# Altium integrated library Linear Technology Power Management LDO Linear Regulators.IntLib: 2339 symbols (part 29 of 131)
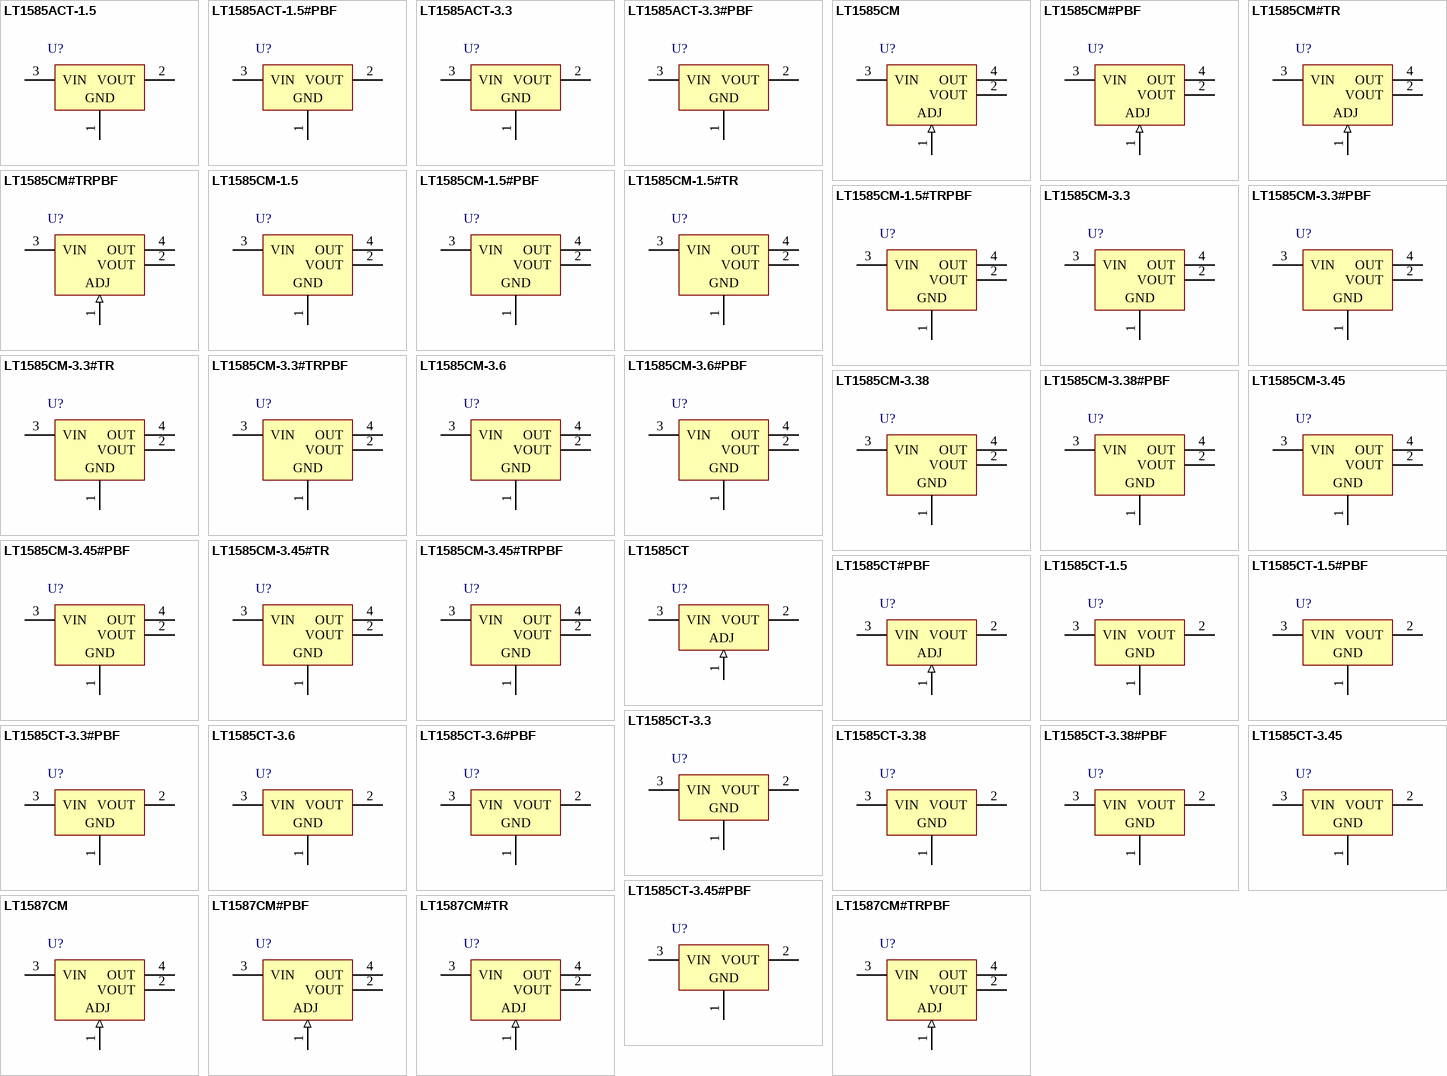
[diagram p97: symbols LT1585ACT-1.5 to LT1587CM#TRPBF]

## LT1585CT-1.5
designator U?
4.6 A Low Dropout Fast Response Positive Regulator, 2.5 to 7 V Vin, 1.5 V Vout, 3-pin FM (T-3), 0 to 150 degC; Manufacturer: Linear Technology; PartNumber: LT1585CT-1.5; Discrete Pass Element: no; Dropout Voltage(V): 1.2; Iout(mA): 4600; Isupply(mA): 8; Number of Outputs: 1; Output Voltage: 1.5 V; Vin Max(V): 7; Vin Min(V): 2.5; DatasheetVersion: Rev. A; PackageVersion: Jun-10; PackageReference: T-3; PackageDescription: 3-Pin Plastic TO-220, Body 10.2235 x 4.3815 mm, Pitch 2.54 mm; Supplier 1: Digi-Key; Supplier Part Number 1: LT1585CT-1.5-ND; RoHS: FALSE; Mounting Technology: Through Hole; ComponentLink1Description: Manufacturer URL; ComponentLink1URL: http://www.linear.com/; ComponentLink2Description: Datasheet; ComponentLink2URL: http://cds.linear.com/docs/en/datasheet/158515fa.pdf; ComponentLink3Description: Package Specification; ComponentLink3URL: http://cds.linear.com/docs/en/packaging/TO-220_3_05-08-1420.pdf
footprint LT-T-3 (T, 3-Leads, Body 10.55x4.6mm, Pitch 2.54mm)
pins: 1 GND (power), 2 VOUT (power), 3 VIN (power)

## LT1585CT-1.5#PBF
designator U?
4.6 A Low Dropout Fast Response Positive Regulator, 2.5 to 7 V Vin, 1.5 V Vout, 3-pin FM (T-3), 0 to 150 degC, Pb-Free; Manufacturer: Linear Technology; PartNumber: LT1585CT-1.5#PBF; Discrete Pass Element: no; Dropout Voltage(V): 1.2; Iout(mA): 4600; Isupply(mA): 8; Number of Outputs: 1; Output Voltage: 1.5 V; Vin Max(V): 7; Vin Min(V): 2.5; DatasheetVersion: Rev. A; PackageVersion: Jun-10; PackageReference: T-3; PackageDescription: 3-Pin Plastic TO-220, Body 10.2235 x 4.3815 mm, Pitch 2.54 mm; Supplier 1: Digi-Key; Supplier Part Number 1: LT1585CT-1.5#PBF-ND; RoHS: TRUE; Mounting Technology: Through Hole; ComponentLink1Description: Manufacturer URL; ComponentLink1URL: http://www.linear.com/; ComponentLink2Description: Datasheet; ComponentLink2URL: http://cds.linear.com/docs/en/datasheet/158515fa.pdf; ComponentLink3Description: Package Specification; ComponentLink3URL: http://cds.linear.com/docs/en/packaging/TO-220_3_05-08-1420.pdf
footprint LT-T-3 (T, 3-Leads, Body 10.55x4.6mm, Pitch 2.54mm)
pins: 1 GND (power), 2 VOUT (power), 3 VIN (power)

## LT1585CT-3.3
designator U?
4.6 A Low Dropout Fast Response Positive Regulator, 2.35 to 7 V Vin, 3.3 V Vout, 3-pin FM (T-3), 0 to 150 degC; Manufacturer: Linear Technology; PartNumber: LT1585CT-3.3; Discrete Pass Element: no; Dropout Voltage(V): 1.2; Iout(mA): 4600; Isupply(mA): 8; Number of Outputs: 1; Output Voltage: 3.3 V; Vin Max(V): 7; Vin Min(V): 2.35; DatasheetVersion: Rev. A; PackageVersion: Jun-10; PackageReference: T-3; PackageDescription: 3-Pin Plastic TO-220, Body 10.2235 x 4.3815 mm, Pitch 2.54 mm; Supplier 1: Newark; Supplier Part Number 1: 57M5132; RoHS: FALSE; Mounting Technology: Through Hole; ComponentLink1Description: Manufacturer URL; ComponentLink1URL: http://www.linear.com/; ComponentLink2Description: Datasheet; ComponentLink2URL: http://cds.linear.com/docs/en/datasheet/158457a.pdf; ComponentLink3Description: Package Specification; ComponentLink3URL: http://cds.linear.com/docs/en/packaging/TO-220_3_05-08-1420.pdf
footprint LT-T-3 (T, 3-Leads, Body 10.55x4.6mm, Pitch 2.54mm)
pins: 1 GND (power), 2 VOUT (power), 3 VIN (power)

## LT1585CT-3.3#PBF
designator U?
4.6 A Low Dropout Fast Response Positive Regulator, 2.35 to 7 V Vin, 3.3 V Vout, 3-pin FM (T-3), 0 to 150 degC, Pb-Free; Manufacturer: Linear Technology; PartNumber: LT1585CT-3.3#PBF; Discrete Pass Element: no; Dropout Voltage(V): 1.2; Iout(mA): 4600; Isupply(mA): 8; Number of Outputs: 1; Output Voltage: 3.3 V; Vin Max(V): 7; Vin Min(V): 2.35; DatasheetVersion: Rev. A; PackageVersion: Jun-10; PackageReference: T-3; PackageDescription: 3-Pin Plastic TO-220, Body 10.2235 x 4.3815 mm, Pitch 2.54 mm; Supplier 1: Digi-Key; Supplier Part Number 1: LT1585CT-3.3#PBF-ND; Supplier 2: Newark; Supplier Part Number 2: 57M5133; RoHS: TRUE; Mounting Technology: Through Hole; ComponentLink1Description: Manufacturer URL; ComponentLink1URL: http://www.linear.com/; ComponentLink2Description: Datasheet; ComponentLink2URL: http://cds.linear.com/docs/en/datasheet/158457a.pdf; ComponentLink3Description: Package Specification; ComponentLink3URL: http://cds.linear.com/docs/en/packaging/TO-220_3_05-08-1420.pdf
footprint LT-T-3 (T, 3-Leads, Body 10.55x4.6mm, Pitch 2.54mm)
pins: 1 GND (power), 2 VOUT (power), 3 VIN (power)

## LT1585CT-3.6
designator U?
4.6 A Low Dropout Fast Response Positive Regulator, 2.35 to 7 V Vin, 3.6 V Vout, 3-pin FM (T-3), 0 to 150 degC; Manufacturer: Linear Technology; PartNumber: LT1585CT-3.6; Discrete Pass Element: no; Dropout Voltage(V): 1.2; Iout(mA): 4600; Isupply(mA): 8; Number of Outputs: 1; Output Voltage: 3.6 V; Vin Max(V): 7; Vin Min(V): 2.35; DatasheetVersion: Rev. A; PackageVersion: Jun-10; PackageReference: T-3; PackageDescription: 3-Pin Plastic TO-220, Body 10.2235 x 4.3815 mm, Pitch 2.54 mm; Supplier 1: Digi-Key; Supplier Part Number 1: LT1585CT-3.6-ND; RoHS: FALSE; Mounting Technology: Through Hole; ComponentLink1Description: Manufacturer URL; ComponentLink1URL: http://www.linear.com/; ComponentLink2Description: Datasheet; ComponentLink2URL: http://cds.linear.com/docs/en/datasheet/158457a.pdf; ComponentLink3Description: Package Specification; ComponentLink3URL: http://cds.linear.com/docs/en/packaging/TO-220_3_05-08-1420.pdf
footprint LT-T-3 (T, 3-Leads, Body 10.55x4.6mm, Pitch 2.54mm)
pins: 1 GND (power), 2 VOUT (power), 3 VIN (power)

## LT1585CT-3.6#PBF
designator U?
4.6 A Low Dropout Fast Response Positive Regulator, 2.35 to 7 V Vin, 3.6 V Vout, 3-pin FM (T-3), 0 to 150 degC, Pb-Free; Manufacturer: Linear Technology; PartNumber: LT1585CT-3.6#PBF; Discrete Pass Element: no; Dropout Voltage(V): 1.2; Iout(mA): 4600; Isupply(mA): 8; Number of Outputs: 1; Output Voltage: 3.6 V; Vin Max(V): 7; Vin Min(V): 2.35; DatasheetVersion: Rev. A; PackageVersion: Jun-10; PackageReference: T-3; PackageDescription: 3-Pin Plastic TO-220, Body 10.2235 x 4.3815 mm, Pitch 2.54 mm; Supplier 1: Digi-Key; Supplier Part Number 1: LT1585CT-3.6#PBF-ND; RoHS: TRUE; Mounting Technology: Through Hole; ComponentLink1Description: Manufacturer URL; ComponentLink1URL: http://www.linear.com/; ComponentLink2Description: Datasheet; ComponentLink2URL: http://cds.linear.com/docs/en/datasheet/158457a.pdf; ComponentLink3Description: Package Specification; ComponentLink3URL: http://cds.linear.com/docs/en/packaging/TO-220_3_05-08-1420.pdf
footprint LT-T-3 (T, 3-Leads, Body 10.55x4.6mm, Pitch 2.54mm)
pins: 1 GND (power), 2 VOUT (power), 3 VIN (power)

## LT1585CT-3.38
designator U?
4.6 A Low Dropout Fast Response Positive Regulator, 2.35 to 7 V Vin, 3.38 V Vout, 3-pin FM (T-3), 0 to 150 degC; Manufacturer: Linear Technology; PartNumber: LT1585CT-3.38; Discrete Pass Element: no; Dropout Voltage(V): 1.2; Iout(mA): 4600; Isupply(mA): 8; Number of Outputs: 1; Output Voltage: 3.38 V; Vin Max(V): 7; Vin Min(V): 2.35; DatasheetVersion: Rev. A; PackageVersion: Jun-10; PackageReference: T-3; PackageDescription: 3-Pin Plastic TO-220, Body 10.2235 x 4.3815 mm, Pitch 2.54 mm; Supplier 1: Digi-Key; Supplier Part Number 1: LT1585CT-3.38-ND; RoHS: FALSE; Mounting Technology: Through Hole; ComponentLink1Description: Manufacturer URL; ComponentLink1URL: http://www.linear.com/; ComponentLink2Description: Datasheet; ComponentLink2URL: http://cds.linear.com/docs/en/datasheet/158457a.pdf; ComponentLink3Description: Package Specification; ComponentLink3URL: http://cds.linear.com/docs/en/packaging/TO-220_3_05-08-1420.pdf
footprint LT-T-3 (T, 3-Leads, Body 10.55x4.6mm, Pitch 2.54mm)
pins: 1 GND (power), 2 VOUT (power), 3 VIN (power)

## LT1585CT-3.38#PBF
designator U?
4.6 A Low Dropout Fast Response Positive Regulator, 2.35 to 7 V Vin, 3.38 V Vout, 3-pin FM (T-3), 0 to 150 degC, Pb-Free; Manufacturer: Linear Technology; PartNumber: LT1585CT-3.38#PBF; Discrete Pass Element: no; Dropout Voltage(V): 1.2; Iout(mA): 4600; Isupply(mA): 8; Number of Outputs: 1; Output Voltage: 3.38 V; Vin Max(V): 7; Vin Min(V): 2.35; DatasheetVersion: Rev. A; PackageVersion: Jun-10; PackageReference: T-3; PackageDescription: 3-Pin Plastic TO-220, Body 10.2235 x 4.3815 mm, Pitch 2.54 mm; Supplier 1: Digi-Key; Supplier Part Number 1: LT1585CT-3.38#PBF-ND; RoHS: TRUE; Mounting Technology: Through Hole; ComponentLink1Description: Manufacturer URL; ComponentLink1URL: http://www.linear.com/; ComponentLink2Description: Datasheet; ComponentLink2URL: http://cds.linear.com/docs/en/datasheet/158457a.pdf; ComponentLink3Description: Package Specification; ComponentLink3URL: http://cds.linear.com/docs/en/packaging/TO-220_3_05-08-1420.pdf
footprint LT-T-3 (T, 3-Leads, Body 10.55x4.6mm, Pitch 2.54mm)
pins: 1 GND (power), 2 VOUT (power), 3 VIN (power)

## LT1585CT-3.45
designator U?
4.6 A Low Dropout Fast Response Positive Regulator, 2.35 to 7 V Vin, 3.45 V Vout, 3-pin FM (T-3), 0 to 150 degC; Manufacturer: Linear Technology; PartNumber: LT1585CT-3.45; Discrete Pass Element: no; Dropout Voltage(V): 1.2; Iout(mA): 4600; Isupply(mA): 8; Number of Outputs: 1; Output Voltage: 3.45 V; Vin Max(V): 7; Vin Min(V): 2.35; DatasheetVersion: Rev. A; PackageVersion: Jun-10; PackageReference: T-3; PackageDescription: 3-Pin Plastic TO-220, Body 10.2235 x 4.3815 mm, Pitch 2.54 mm; Supplier 1: Digi-Key; Supplier Part Number 1: LT1585CT-3.45-ND; RoHS: FALSE; Mounting Technology: Through Hole; ComponentLink1Description: Manufacturer URL; ComponentLink1URL: http://www.linear.com/; ComponentLink2Description: Datasheet; ComponentLink2URL: http://cds.linear.com/docs/en/datasheet/158457a.pdf; ComponentLink3Description: Package Specification; ComponentLink3URL: http://cds.linear.com/docs/en/packaging/TO-220_3_05-08-1420.pdf
footprint LT-T-3 (T, 3-Leads, Body 10.55x4.6mm, Pitch 2.54mm)
pins: 1 GND (power), 2 VOUT (power), 3 VIN (power)

## LT1585CT-3.45#PBF
designator U?
4.6 A Low Dropout Fast Response Positive Regulator, 2.35 to 7 V Vin, 3.45 V Vout, 3-pin FM (T-3), 0 to 150 degC, Pb-Free; Manufacturer: Linear Technology; PartNumber: LT1585CT-3.45#PBF; Discrete Pass Element: no; Dropout Voltage(V): 1.2; Iout(mA): 4600; Isupply(mA): 8; Number of Outputs: 1; Output Voltage: 3.45 V; Vin Max(V): 7; Vin Min(V): 2.35; DatasheetVersion: Rev. A; PackageVersion: Jun-10; PackageReference: T-3; PackageDescription: 3-Pin Plastic TO-220, Body 10.2235 x 4.3815 mm, Pitch 2.54 mm; Supplier 1: Digi-Key; Supplier Part Number 1: LT1585CT-3.45#PBF-ND; Supplier 2: Newark; Supplier Part Number 2: 57M5137; RoHS: TRUE; Mounting Technology: Through Hole; ComponentLink1Description: Manufacturer URL; ComponentLink1URL: http://www.linear.com/; ComponentLink2Description: Datasheet; ComponentLink2URL: http://cds.linear.com/docs/en/datasheet/158457a.pdf; ComponentLink3Description: Package Specification; ComponentLink3URL: http://cds.linear.com/docs/en/packaging/TO-220_3_05-08-1420.pdf
footprint LT-T-3 (T, 3-Leads, Body 10.55x4.6mm, Pitch 2.54mm)
pins: 1 GND (power), 2 VOUT (power), 3 VIN (power)

## LT1587CM
designator U?
3 A Low Dropout Fast Response Positive Regulator, 2.7 to 7 V Vin, Adjustable Vout, 3-pin DPAK (M-3), 0 to 150 degC; Manufacturer: Linear Technology; PartNumber: LT1587CM; Discrete Pass Element: no; Dropout Voltage(V): 1.15; Iout(mA): 3000; Isupply(mA): 8; Number of Outputs: 1; Output Voltage: Adj; PSRR(dB): 72; Vin Max(V): 7; Vin Min(V): 2.7; Vout Max(V): 5.5; Vout Min(V): 1.5; DatasheetVersion: Rev. A; PackageVersion: Rev. F, 05/2012; PackageReference: M-3; PackageDescription: 3-Pin Plastic DD Pak, Body 10.2235 x 8.89 mm, Pitch 2.54 mm; Supplier 1: Digi-Key; Supplier Part Number 1: LT1587CM-ND; Supplier 2: Newark; Supplier Part Number 2: 57M5141; RoHS: FALSE; Mounting Technology: Surface Mount; ComponentLink1Description: Manufacturer URL; ComponentLink1URL: http://www.linear.com/; ComponentLink2Description: Datasheet; ComponentLink2URL: http://cds.linear.com/docs/en/datasheet/158457a.pdf; ComponentLink3Description: Package Specification; ComponentLink3URL: http://cds.linear.com/docs/en/packaging/05081460_F_M.pdf
footprint LT-M-3_N (DPAK, 3-Leads, Body 10.55x9.4mm, Pitch 2.54mm, IPC Medium Density)
footprint LT-M-3_L (DPAK, 3-Leads, Body 10.55x9.4mm, Pitch 2.54mm, IPC High Density)
footprint LT-M-3_M (DPAK, 3-Leads, Body 10.55x9.4mm, Pitch 2.54mm, IPC Low Density)
pins: 1 ADJ (in), 2 VOUT (power), 3 VIN (power), 4 OUT (power)

## LT1587CM#PBF
designator U?
3 A Low Dropout Fast Response Positive Regulator, 2.7 to 7 V Vin, Adjustable Vout, 3-pin DPAK (M-3), 0 to 150 degC, Pb-Free; Manufacturer: Linear Technology; PartNumber: LT1587CM#PBF; Discrete Pass Element: no; Dropout Voltage(V): 1.15; Iout(mA): 3000; Isupply(mA): 8; Number of Outputs: 1; Output Voltage: Adj; PSRR(dB): 72; Vin Max(V): 7; Vin Min(V): 2.7; Vout Max(V): 5.5; Vout Min(V): 1.5; DatasheetVersion: Rev. A; PackageVersion: Rev. F, 05/2012; PackageReference: M-3; PackageDescription: 3-Pin Plastic DD Pak, Body 10.2235 x 8.89 mm, Pitch 2.54 mm; Supplier 1: Digi-Key; Supplier Part Number 1: LT1587CM#PBF-ND; Supplier 2: Farnell; Supplier Part Number 2: 1273605; Supplier 3: Newark; Supplier Part Number 3: 57M5158; RoHS: TRUE; Mounting Technology: Surface Mount; ComponentLink1Description: Manufacturer URL; ComponentLink1URL: http://www.linear.com/; ComponentLink2Description: Datasheet; ComponentLink2URL: http://cds.linear.com/docs/en/datasheet/158457a.pdf; ComponentLink3Description: Package Specification; ComponentLink3URL: http://cds.linear.com/docs/en/packaging/05081460_F_M.pdf
footprint LT-M-3_N (DPAK, 3-Leads, Body 10.55x9.4mm, Pitch 2.54mm, IPC Medium Density)
footprint LT-M-3_L (DPAK, 3-Leads, Body 10.55x9.4mm, Pitch 2.54mm, IPC High Density)
footprint LT-M-3_M (DPAK, 3-Leads, Body 10.55x9.4mm, Pitch 2.54mm, IPC Low Density)
pins: 1 ADJ (in), 2 VOUT (power), 3 VIN (power), 4 OUT (power)

## LT1587CM#TR
designator U?
3 A Low Dropout Fast Response Positive Regulator, 2.7 to 7 V Vin, Adjustable Vout, 3-pin DPAK (M-3), 0 to 150 degC, Tape and Reel; Manufacturer: Linear Technology; PartNumber: LT1587CM#TR; Discrete Pass Element: no; Dropout Voltage(V): 1.15; Iout(mA): 3000; Isupply(mA): 8; Number of Outputs: 1; Output Voltage: Adj; PSRR(dB): 72; Vin Max(V): 7; Vin Min(V): 2.7; Vout Max(V): 5.5; Vout Min(V): 1.5; DatasheetVersion: Rev. A; PackageVersion: Rev. F, 05/2012; PackageReference: M-3; PackageDescription: 3-Pin Plastic DD Pak, Body 10.2235 x 8.89 mm, Pitch 2.54 mm; Supplier 1: Digi-Key; Supplier Part Number 1: LT1587CM#TR-ND; Packing: Tape and Reel; RoHS: FALSE; Mounting Technology: Surface Mount; ComponentLink1Description: Manufacturer URL; ComponentLink1URL: http://www.linear.com/; ComponentLink2Description: Datasheet; ComponentLink2URL: http://cds.linear.com/docs/en/datasheet/158457a.pdf; ComponentLink3Description: Package Specification; ComponentLink3URL: http://cds.linear.com/docs/en/packaging/05081460_F_M.pdf
footprint LT-M-3_N (DPAK, 3-Leads, Body 10.55x9.4mm, Pitch 2.54mm, IPC Medium Density)
footprint LT-M-3_L (DPAK, 3-Leads, Body 10.55x9.4mm, Pitch 2.54mm, IPC High Density)
footprint LT-M-3_M (DPAK, 3-Leads, Body 10.55x9.4mm, Pitch 2.54mm, IPC Low Density)
pins: 1 ADJ (in), 2 VOUT (power), 3 VIN (power), 4 OUT (power)

## LT1587CM#TRPBF
designator U?
3 A Low Dropout Fast Response Positive Regulator, 2.7 to 7 V Vin, Adjustable Vout, 3-pin DPAK (M-3), 0 to 150 degC, Pb-Free, Tape and Reel; Manufacturer: Linear Technology; PartNumber: LT1587CM#TRPBF; Discrete Pass Element: no; Dropout Voltage(V): 1.15; Iout(mA): 3000; Isupply(mA): 8; Number of Outputs: 1; Output Voltage: Adj; PSRR(dB): 72; Vin Max(V): 7; Vin Min(V): 2.7; Vout Max(V): 5.5; Vout Min(V): 1.5; DatasheetVersion: Rev. A; PackageVersion: Rev. F, 05/2012; PackageReference: M-3; PackageDescription: 3-Pin Plastic DD Pak, Body 10.2235 x 8.89 mm, Pitch 2.54 mm; Supplier 1: Digi-Key; Supplier Part Number 1: LT1587CM#TRPBF-ND; Supplier 2: Newark; Supplier Part Number 2: 57M5160; Packing: Tape and Reel; RoHS: TRUE; Mounting Technology: Surface Mount; ComponentLink1Description: Manufacturer URL; ComponentLink1URL: http://www.linear.com/; ComponentLink2Description: Datasheet; ComponentLink2URL: http://cds.linear.com/docs/en/datasheet/158457a.pdf; ComponentLink3Description: Package Specification; ComponentLink3URL: http://cds.linear.com/docs/en/packaging/05081460_F_M.pdf
footprint LT-M-3_N (DPAK, 3-Leads, Body 10.55x9.4mm, Pitch 2.54mm, IPC Medium Density)
footprint LT-M-3_L (DPAK, 3-Leads, Body 10.55x9.4mm, Pitch 2.54mm, IPC High Density)
footprint LT-M-3_M (DPAK, 3-Leads, Body 10.55x9.4mm, Pitch 2.54mm, IPC Low Density)
pins: 1 ADJ (in), 2 VOUT (power), 3 VIN (power), 4 OUT (power)

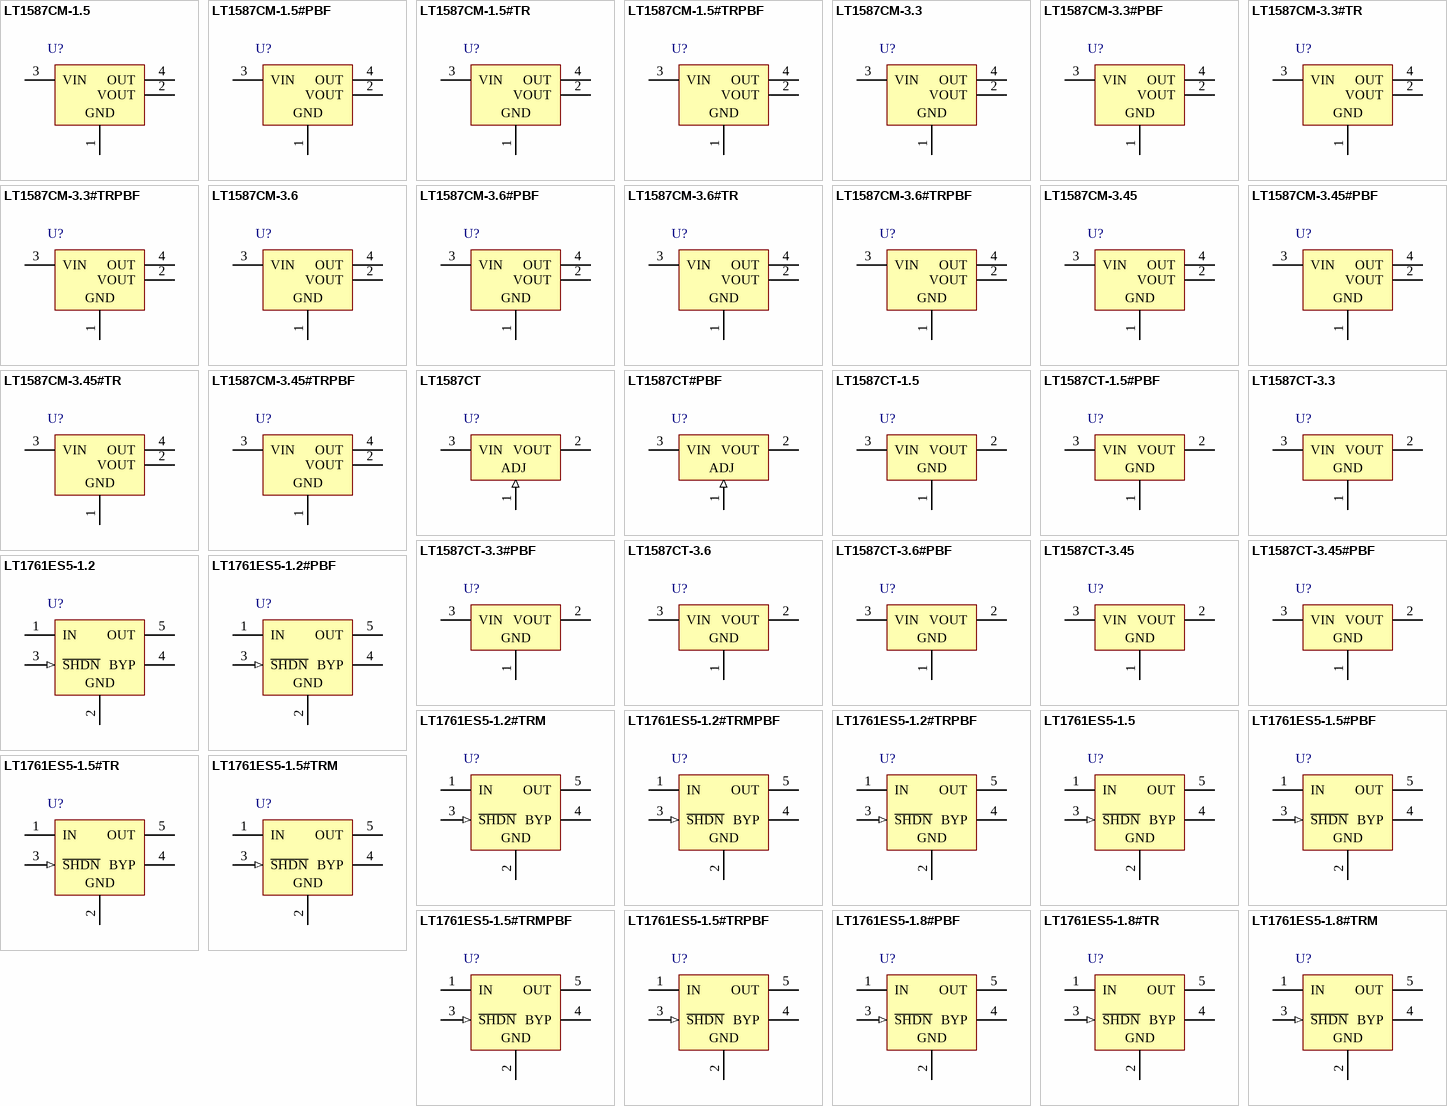
[diagram p20: symbols LT1587CM-1.5 to LT1761ES5-1.8#TRM]

## LT1587CM-1.5
designator U?
3 A Low Dropout Fast Response Positive Regulator, 2.7 to 7 V Vin, 1.5 V Vout, 3-pin DPAK (M-3), 0 to 150 degC; Manufacturer: Linear Technology; PartNumber: LT1587CM-1.5; Discrete Pass Element: no; Dropout Voltage(V): 1.15; Iout(mA): 3000; Isupply(mA): 8; Number of Outputs: 1; Output Voltage: 1.5 V; PSRR(dB): 72; Vin Max(V): 7; Vin Min(V): 2.7; DatasheetVersion: Rev. A; PackageVersion: Rev. F, 05/2012; PackageReference: M-3; PackageDescription: 3-Pin Plastic DD Pak, Body 10.2235 x 8.89 mm, Pitch 2.54 mm; Supplier 1: Digi-Key; Supplier Part Number 1: LT1587CM-1.5-ND; RoHS: FALSE; Mounting Technology: Surface Mount; ComponentLink1Description: Manufacturer URL; ComponentLink1URL: http://www.linear.com/; ComponentLink2Description: Datasheet; ComponentLink2URL: http://cds.linear.com/docs/en/datasheet/158457a.pdf; ComponentLink3Description: Package Specification; ComponentLink3URL: http://cds.linear.com/docs/en/packaging/05081460_F_M.pdf
footprint LT-M-3_N (DPAK, 3-Leads, Body 10.55x9.4mm, Pitch 2.54mm, IPC Medium Density)
footprint LT-M-3_L (DPAK, 3-Leads, Body 10.55x9.4mm, Pitch 2.54mm, IPC High Density)
footprint LT-M-3_M (DPAK, 3-Leads, Body 10.55x9.4mm, Pitch 2.54mm, IPC Low Density)
pins: 1 GND (power), 2 VOUT (power), 3 VIN (power), 4 OUT (power)

## LT1587CM-1.5#PBF
designator U?
3 A Low Dropout Fast Response Positive Regulator, 2.7 to 7 V Vin, 1.5 V Vout, 3-pin DPAK (M-3), 0 to 150 degC, Pb-Free; Manufacturer: Linear Technology; PartNumber: LT1587CM-1.5#PBF; Discrete Pass Element: no; Dropout Voltage(V): 1.15; Iout(mA): 3000; Isupply(mA): 8; Number of Outputs: 1; Output Voltage: 1.5 V; PSRR(dB): 72; Vin Max(V): 7; Vin Min(V): 2.7; DatasheetVersion: Rev. A; PackageVersion: Rev. F, 05/2012; PackageReference: M-3; PackageDescription: 3-Pin Plastic DD Pak, Body 10.2235 x 8.89 mm, Pitch 2.54 mm; Supplier 1: Digi-Key; Supplier Part Number 1: LT1587CM-1.5#PBF-ND; Supplier 2: Farnell; Supplier Part Number 2: 2293138; RoHS: TRUE; Mounting Technology: Surface Mount; ComponentLink1Description: Manufacturer URL; ComponentLink1URL: http://www.linear.com/; ComponentLink2Description: Datasheet; ComponentLink2URL: http://cds.linear.com/docs/en/datasheet/158457a.pdf; ComponentLink3Description: Package Specification; ComponentLink3URL: http://cds.linear.com/docs/en/packaging/05081460_F_M.pdf
footprint LT-M-3_N (DPAK, 3-Leads, Body 10.55x9.4mm, Pitch 2.54mm, IPC Medium Density)
footprint LT-M-3_L (DPAK, 3-Leads, Body 10.55x9.4mm, Pitch 2.54mm, IPC High Density)
footprint LT-M-3_M (DPAK, 3-Leads, Body 10.55x9.4mm, Pitch 2.54mm, IPC Low Density)
pins: 1 GND (power), 2 VOUT (power), 3 VIN (power), 4 OUT (power)

## LT1587CM-1.5#TR
designator U?
3 A Low Dropout Fast Response Positive Regulator, 2.7 to 7 V Vin, 1.5 V Vout, 3-pin DPAK (M-3), 0 to 150 degC, Tape and Reel; Manufacturer: Linear Technology; PartNumber: LT1587CM-1.5#TR; Discrete Pass Element: no; Dropout Voltage(V): 1.15; Iout(mA): 3000; Isupply(mA): 8; Number of Outputs: 1; Output Voltage: 1.5 V; PSRR(dB): 72; Vin Max(V): 7; Vin Min(V): 2.7; DatasheetVersion: Rev. A; PackageVersion: Rev. F, 05/2012; PackageReference: M-3; PackageDescription: 3-Pin Plastic DD Pak, Body 10.2235 x 8.89 mm, Pitch 2.54 mm; Supplier 1: Digi-Key; Supplier Part Number 1: LT1587CM-1.5#TR-ND; Packing: Tape and Reel; RoHS: FALSE; Mounting Technology: Surface Mount; ComponentLink1Description: Manufacturer URL; ComponentLink1URL: http://www.linear.com/; ComponentLink2Description: Datasheet; ComponentLink2URL: http://cds.linear.com/docs/en/datasheet/158457a.pdf; ComponentLink3Description: Package Specification; ComponentLink3URL: http://cds.linear.com/docs/en/packaging/05081460_F_M.pdf
footprint LT-M-3_N (DPAK, 3-Leads, Body 10.55x9.4mm, Pitch 2.54mm, IPC Medium Density)
footprint LT-M-3_L (DPAK, 3-Leads, Body 10.55x9.4mm, Pitch 2.54mm, IPC High Density)
footprint LT-M-3_M (DPAK, 3-Leads, Body 10.55x9.4mm, Pitch 2.54mm, IPC Low Density)
pins: 1 GND (power), 2 VOUT (power), 3 VIN (power), 4 OUT (power)

## LT1587CM-1.5#TRPBF
designator U?
3 A Low Dropout Fast Response Positive Regulator, 2.7 to 7 V Vin, 1.5 V Vout, 3-pin DPAK (M-3), 0 to 150 degC, Pb-Free, Tape and Reel; Manufacturer: Linear Technology; PartNumber: LT1587CM-1.5#TRPBF; Discrete Pass Element: no; Dropout Voltage(V): 1.15; Iout(mA): 3000; Isupply(mA): 8; Number of Outputs: 1; Output Voltage: 1.5 V; PSRR(dB): 72; Vin Max(V): 7; Vin Min(V): 2.7; DatasheetVersion: Rev. A; PackageVersion: Rev. F, 05/2012; PackageReference: M-3; PackageDescription: 3-Pin Plastic DD Pak, Body 10.2235 x 8.89 mm, Pitch 2.54 mm; Supplier 1: Digi-Key; Supplier Part Number 1: LT1587CM-1.5#TRPBF-ND; Packing: Tape and Reel; RoHS: TRUE; Mounting Technology: Surface Mount; ComponentLink1Description: Manufacturer URL; ComponentLink1URL: http://www.linear.com/; ComponentLink2Description: Datasheet; ComponentLink2URL: http://cds.linear.com/docs/en/datasheet/158457a.pdf; ComponentLink3Description: Package Specification; ComponentLink3URL: http://cds.linear.com/docs/en/packaging/05081460_F_M.pdf
footprint LT-M-3_N (DPAK, 3-Leads, Body 10.55x9.4mm, Pitch 2.54mm, IPC Medium Density)
footprint LT-M-3_L (DPAK, 3-Leads, Body 10.55x9.4mm, Pitch 2.54mm, IPC High Density)
footprint LT-M-3_M (DPAK, 3-Leads, Body 10.55x9.4mm, Pitch 2.54mm, IPC Low Density)
pins: 1 GND (power), 2 VOUT (power), 3 VIN (power), 4 OUT (power)

## LT1587CM-3.3
designator U?
3 A Low Dropout Fast Response Positive Regulator, 2.7 to 7 V Vin, 3.3 V Vout, 3-pin DPAK (M-3), 0 to 150 degC; Manufacturer: Linear Technology; PartNumber: LT1587CM-3.3; Discrete Pass Element: no; Dropout Voltage(V): 1.15; Iout(mA): 3000; Isupply(mA): 8; Number of Outputs: 1; Output Voltage: 3.3 V; PSRR(dB): 72; Vin Max(V): 7; Vin Min(V): 2.7; DatasheetVersion: Rev. A; PackageVersion: Rev. F, 05/2012; PackageReference: M-3; PackageDescription: 3-Pin Plastic DD Pak, Body 10.2235 x 8.89 mm, Pitch 2.54 mm; Supplier 1: Digi-Key; Supplier Part Number 1: LT1587CM-3.3-ND; RoHS: FALSE; Mounting Technology: Surface Mount; ComponentLink1Description: Manufacturer URL; ComponentLink1URL: http://www.linear.com/; ComponentLink2Description: Datasheet; ComponentLink2URL: http://cds.linear.com/docs/en/datasheet/158457a.pdf; ComponentLink3Description: Package Specification; ComponentLink3URL: http://cds.linear.com/docs/en/packaging/05081460_F_M.pdf
footprint LT-M-3_N (DPAK, 3-Leads, Body 10.55x9.4mm, Pitch 2.54mm, IPC Medium Density)
footprint LT-M-3_L (DPAK, 3-Leads, Body 10.55x9.4mm, Pitch 2.54mm, IPC High Density)
footprint LT-M-3_M (DPAK, 3-Leads, Body 10.55x9.4mm, Pitch 2.54mm, IPC Low Density)
pins: 1 GND (power), 2 VOUT (power), 3 VIN (power), 4 OUT (power)

## LT1587CM-3.3#PBF
designator U?
3 A Low Dropout Fast Response Positive Regulator, 2.7 to 7 V Vin, 3.3 V Vout, 3-pin DPAK (M-3), 0 to 150 degC, Pb-Free; Manufacturer: Linear Technology; PartNumber: LT1587CM-3.3#PBF; Discrete Pass Element: no; Dropout Voltage(V): 1.15; Iout(mA): 3000; Isupply(mA): 8; Number of Outputs: 1; Output Voltage: 3.3 V; PSRR(dB): 72; Vin Max(V): 7; Vin Min(V): 2.7; DatasheetVersion: Rev. A; PackageVersion: Rev. F, 05/2012; PackageReference: M-3; PackageDescription: 3-Pin Plastic DD Pak, Body 10.2235 x 8.89 mm, Pitch 2.54 mm; Supplier 1: Digi-Key; Supplier Part Number 1: LT1587CM-3.3#PBF-ND; Supplier 2: Farnell; Supplier Part Number 2: 1273606; Supplier 3: Newark; Supplier Part Number 3: 57M5147; RoHS: TRUE; Mounting Technology: Surface Mount; ComponentLink1Description: Manufacturer URL; ComponentLink1URL: http://www.linear.com/; ComponentLink2Description: Datasheet; ComponentLink2URL: http://cds.linear.com/docs/en/datasheet/158457a.pdf; ComponentLink3Description: Package Specification; ComponentLink3URL: http://cds.linear.com/docs/en/packaging/05081460_F_M.pdf
footprint LT-M-3_N (DPAK, 3-Leads, Body 10.55x9.4mm, Pitch 2.54mm, IPC Medium Density)
footprint LT-M-3_L (DPAK, 3-Leads, Body 10.55x9.4mm, Pitch 2.54mm, IPC High Density)
footprint LT-M-3_M (DPAK, 3-Leads, Body 10.55x9.4mm, Pitch 2.54mm, IPC Low Density)
pins: 1 GND (power), 2 VOUT (power), 3 VIN (power), 4 OUT (power)

## LT1587CM-3.3#TR
designator U?
3 A Low Dropout Fast Response Positive Regulator, 2.7 to 7 V Vin, 3.3 V Vout, 3-pin DPAK (M-3), 0 to 150 degC, Tape and Reel; Manufacturer: Linear Technology; PartNumber: LT1587CM-3.3#TR; Discrete Pass Element: no; Dropout Voltage(V): 1.15; Iout(mA): 3000; Isupply(mA): 8; Number of Outputs: 1; Output Voltage: 3.3 V; PSRR(dB): 72; Vin Max(V): 7; Vin Min(V): 2.7; DatasheetVersion: Rev. A; PackageVersion: Rev. F, 05/2012; PackageReference: M-3; PackageDescription: 3-Pin Plastic DD Pak, Body 10.2235 x 8.89 mm, Pitch 2.54 mm; Supplier 1: Digi-Key; Supplier Part Number 1: LT1587CM-3.3#TR-ND; Packing: Tape and Reel; RoHS: FALSE; Mounting Technology: Surface Mount; ComponentLink1Description: Manufacturer URL; ComponentLink1URL: http://www.linear.com/; ComponentLink2Description: Datasheet; ComponentLink2URL: http://cds.linear.com/docs/en/datasheet/158457a.pdf; ComponentLink3Description: Package Specification; ComponentLink3URL: http://cds.linear.com/docs/en/packaging/05081460_F_M.pdf
footprint LT-M-3_N (DPAK, 3-Leads, Body 10.55x9.4mm, Pitch 2.54mm, IPC Medium Density)
footprint LT-M-3_L (DPAK, 3-Leads, Body 10.55x9.4mm, Pitch 2.54mm, IPC High Density)
footprint LT-M-3_M (DPAK, 3-Leads, Body 10.55x9.4mm, Pitch 2.54mm, IPC Low Density)
pins: 1 GND (power), 2 VOUT (power), 3 VIN (power), 4 OUT (power)

## LT1587CM-3.3#TRPBF
designator U?
3 A Low Dropout Fast Response Positive Regulator, 2.7 to 7 V Vin, 3.3 V Vout, 3-pin DPAK (M-3), 0 to 150 degC, Pb-Free, Tape and Reel; Manufacturer: Linear Technology; PartNumber: LT1587CM-3.3#TRPBF; Discrete Pass Element: no; Dropout Voltage(V): 1.15; Iout(mA): 3000; Isupply(mA): 8; Number of Outputs: 1; Output Voltage: 3.3 V; PSRR(dB): 72; Vin Max(V): 7; Vin Min(V): 2.7; DatasheetVersion: Rev. A; PackageVersion: Rev. F, 05/2012; PackageReference: M-3; PackageDescription: 3-Pin Plastic DD Pak, Body 10.2235 x 8.89 mm, Pitch 2.54 mm; Supplier 1: Digi-Key; Supplier Part Number 1: LT1587CM-3.3#TRPBF-ND; Supplier 2: Newark; Supplier Part Number 2: 57M5149; Packing: Tape and Reel; RoHS: TRUE; Mounting Technology: Surface Mount; ComponentLink1Description: Manufacturer URL; ComponentLink1URL: http://www.linear.com/; ComponentLink2Description: Datasheet; ComponentLink2URL: http://cds.linear.com/docs/en/datasheet/158457a.pdf; ComponentLink3Description: Package Specification; ComponentLink3URL: http://cds.linear.com/docs/en/packaging/05081460_F_M.pdf
footprint LT-M-3_N (DPAK, 3-Leads, Body 10.55x9.4mm, Pitch 2.54mm, IPC Medium Density)
footprint LT-M-3_L (DPAK, 3-Leads, Body 10.55x9.4mm, Pitch 2.54mm, IPC High Density)
footprint LT-M-3_M (DPAK, 3-Leads, Body 10.55x9.4mm, Pitch 2.54mm, IPC Low Density)
pins: 1 GND (power), 2 VOUT (power), 3 VIN (power), 4 OUT (power)

## LT1587CM-3.6
designator U?
3 A Low Dropout Fast Response Positive Regulator, 2.7 to 7 V Vin, 3.6 V Vout, 3-pin DPAK (M-3), 0 to 150 degC; Manufacturer: Linear Technology; PartNumber: LT1587CM-3.6; Discrete Pass Element: no; Dropout Voltage(V): 1.15; Iout(mA): 3000; Isupply(mA): 8; Number of Outputs: 1; Output Voltage: 3.6 V; PSRR(dB): 72; Vin Max(V): 7; Vin Min(V): 2.7; DatasheetVersion: Rev. A; PackageVersion: Rev. F, 05/2012; PackageReference: M-3; PackageDescription: 3-Pin Plastic DD Pak, Body 10.2235 x 8.89 mm, Pitch 2.54 mm; Supplier 1: Digi-Key; Supplier Part Number 1: LT1587CM-3.6-ND; RoHS: FALSE; Mounting Technology: Surface Mount; ComponentLink1Description: Manufacturer URL; ComponentLink1URL: http://www.linear.com/; ComponentLink2Description: Datasheet; ComponentLink2URL: http://cds.linear.com/docs/en/datasheet/158457a.pdf; ComponentLink3Description: Package Specification; ComponentLink3URL: http://cds.linear.com/docs/en/packaging/05081460_F_M.pdf
footprint LT-M-3_N (DPAK, 3-Leads, Body 10.55x9.4mm, Pitch 2.54mm, IPC Medium Density)
footprint LT-M-3_L (DPAK, 3-Leads, Body 10.55x9.4mm, Pitch 2.54mm, IPC High Density)
footprint LT-M-3_M (DPAK, 3-Leads, Body 10.55x9.4mm, Pitch 2.54mm, IPC Low Density)
pins: 1 GND (power), 2 VOUT (power), 3 VIN (power), 4 OUT (power)

## LT1587CM-3.6#PBF
designator U?
3 A Low Dropout Fast Response Positive Regulator, 2.7 to 7 V Vin, 3.6 V Vout, 3-pin DPAK (M-3), 0 to 150 degC, Pb-Free; Manufacturer: Linear Technology; PartNumber: LT1587CM-3.6#PBF; Discrete Pass Element: no; Dropout Voltage(V): 1.15; Iout(mA): 3000; Isupply(mA): 8; Number of Outputs: 1; Output Voltage: 3.6 V; PSRR(dB): 72; Vin Max(V): 7; Vin Min(V): 2.7; DatasheetVersion: Rev. A; PackageVersion: Rev. F, 05/2012; PackageReference: M-3; PackageDescription: 3-Pin Plastic DD Pak, Body 10.2235 x 8.89 mm, Pitch 2.54 mm; Supplier 1: Digi-Key; Supplier Part Number 1: LT1587CM-3.6#PBF-ND; RoHS: TRUE; Mounting Technology: Surface Mount; ComponentLink1Description: Manufacturer URL; ComponentLink1URL: http://www.linear.com/; ComponentLink2Description: Datasheet; ComponentLink2URL: http://cds.linear.com/docs/en/datasheet/158457a.pdf; ComponentLink3Description: Package Specification; ComponentLink3URL: http://cds.linear.com/docs/en/packaging/05081460_F_M.pdf
footprint LT-M-3_N (DPAK, 3-Leads, Body 10.55x9.4mm, Pitch 2.54mm, IPC Medium Density)
footprint LT-M-3_L (DPAK, 3-Leads, Body 10.55x9.4mm, Pitch 2.54mm, IPC High Density)
footprint LT-M-3_M (DPAK, 3-Leads, Body 10.55x9.4mm, Pitch 2.54mm, IPC Low Density)
pins: 1 GND (power), 2 VOUT (power), 3 VIN (power), 4 OUT (power)

## LT1587CM-3.6#TR
designator U?
3 A Low Dropout Fast Response Positive Regulator, 2.7 to 7 V Vin, 3.6 V Vout, 3-pin DPAK (M-3), 0 to 150 degC, Tape and Reel; Manufacturer: Linear Technology; PartNumber: LT1587CM-3.6#TR; Discrete Pass Element: no; Dropout Voltage(V): 1.15; Iout(mA): 3000; Isupply(mA): 8; Number of Outputs: 1; Output Voltage: 3.6 V; PSRR(dB): 72; Vin Max(V): 7; Vin Min(V): 2.7; DatasheetVersion: Rev. A; PackageVersion: Rev. F, 05/2012; PackageReference: M-3; PackageDescription: 3-Pin Plastic DD Pak, Body 10.2235 x 8.89 mm, Pitch 2.54 mm; Supplier 1: Digi-Key; Supplier Part Number 1: LT1587CM-3.6#TR-ND; Packing: Tape and Reel; RoHS: FALSE; Mounting Technology: Surface Mount; ComponentLink1Description: Manufacturer URL; ComponentLink1URL: http://www.linear.com/; ComponentLink2Description: Datasheet; ComponentLink2URL: http://cds.linear.com/docs/en/datasheet/158457a.pdf; ComponentLink3Description: Package Specification; ComponentLink3URL: http://cds.linear.com/docs/en/packaging/05081460_F_M.pdf
footprint LT-M-3_N (DPAK, 3-Leads, Body 10.55x9.4mm, Pitch 2.54mm, IPC Medium Density)
footprint LT-M-3_L (DPAK, 3-Leads, Body 10.55x9.4mm, Pitch 2.54mm, IPC High Density)
footprint LT-M-3_M (DPAK, 3-Leads, Body 10.55x9.4mm, Pitch 2.54mm, IPC Low Density)
pins: 1 GND (power), 2 VOUT (power), 3 VIN (power), 4 OUT (power)

## LT1587CM-3.6#TRPBF
designator U?
3 A Low Dropout Fast Response Positive Regulator, 2.7 to 7 V Vin, 3.6 V Vout, 3-pin DPAK (M-3), 0 to 150 degC, Pb-Free, Tape and Reel; Manufacturer: Linear Technology; PartNumber: LT1587CM-3.6#TRPBF; Discrete Pass Element: no; Dropout Voltage(V): 1.15; Iout(mA): 3000; Isupply(mA): 8; Number of Outputs: 1; Output Voltage: 3.6 V; PSRR(dB): 72; Vin Max(V): 7; Vin Min(V): 2.7; DatasheetVersion: Rev. A; PackageVersion: Rev. F, 05/2012; PackageReference: M-3; PackageDescription: 3-Pin Plastic DD Pak, Body 10.2235 x 8.89 mm, Pitch 2.54 mm; Supplier 1: Digi-Key; Supplier Part Number 1: LT1587CM-3.6#TRPBF-ND; Packing: Tape and Reel; RoHS: TRUE; Mounting Technology: Surface Mount; ComponentLink1Description: Manufacturer URL; ComponentLink1URL: http://www.linear.com/; ComponentLink2Description: Datasheet; ComponentLink2URL: http://cds.linear.com/docs/en/datasheet/158457a.pdf; ComponentLink3Description: Package Specification; ComponentLink3URL: http://cds.linear.com/docs/en/packaging/05081460_F_M.pdf
footprint LT-M-3_N (DPAK, 3-Leads, Body 10.55x9.4mm, Pitch 2.54mm, IPC Medium Density)
footprint LT-M-3_L (DPAK, 3-Leads, Body 10.55x9.4mm, Pitch 2.54mm, IPC High Density)
footprint LT-M-3_M (DPAK, 3-Leads, Body 10.55x9.4mm, Pitch 2.54mm, IPC Low Density)
pins: 1 GND (power), 2 VOUT (power), 3 VIN (power), 4 OUT (power)

## LT1587CM-3.45
designator U?
3 A Low Dropout Fast Response Positive Regulator, 2.7 to 7 V Vin, 3.45 V Vout, 3-pin DPAK (M-3), 0 to 150 degC; Manufacturer: Linear Technology; PartNumber: LT1587CM-3.45; Discrete Pass Element: no; Dropout Voltage(V): 1.15; Iout(mA): 3000; Isupply(mA): 8; Number of Outputs: 1; Output Voltage: 3.45 V; PSRR(dB): 72; Vin Max(V): 7; Vin Min(V): 2.7; DatasheetVersion: Rev. A; PackageVersion: Rev. F, 05/2012; PackageReference: M-3; PackageDescription: 3-Pin Plastic DD Pak, Body 10.2235 x 8.89 mm, Pitch 2.54 mm; Supplier 1: Digi-Key; Supplier Part Number 1: LT1587CM-3.45-ND; RoHS: FALSE; Mounting Technology: Surface Mount; ComponentLink1Description: Manufacturer URL; ComponentLink1URL: http://www.linear.com/; ComponentLink2Description: Datasheet; ComponentLink2URL: http://cds.linear.com/docs/en/datasheet/158457a.pdf; ComponentLink3Description: Package Specification; ComponentLink3URL: http://cds.linear.com/docs/en/packaging/05081460_F_M.pdf
footprint LT-M-3_N (DPAK, 3-Leads, Body 10.55x9.4mm, Pitch 2.54mm, IPC Medium Density)
footprint LT-M-3_L (DPAK, 3-Leads, Body 10.55x9.4mm, Pitch 2.54mm, IPC High Density)
footprint LT-M-3_M (DPAK, 3-Leads, Body 10.55x9.4mm, Pitch 2.54mm, IPC Low Density)
pins: 1 GND (power), 2 VOUT (power), 3 VIN (power), 4 OUT (power)

## LT1587CM-3.45#PBF
designator U?
3 A Low Dropout Fast Response Positive Regulator, 2.7 to 7 V Vin, 3.45 V Vout, 3-pin DPAK (M-3), 0 to 150 degC, Pb-Free; Manufacturer: Linear Technology; PartNumber: LT1587CM-3.45#PBF; Discrete Pass Element: no; Dropout Voltage(V): 1.15; Iout(mA): 3000; Isupply(mA): 8; Number of Outputs: 1; Output Voltage: 3.45 V; PSRR(dB): 72; Vin Max(V): 7; Vin Min(V): 2.7; DatasheetVersion: Rev. A; PackageVersion: Rev. F, 05/2012; PackageReference: M-3; PackageDescription: 3-Pin Plastic DD Pak, Body 10.2235 x 8.89 mm, Pitch 2.54 mm; Supplier 1: Digi-Key; Supplier Part Number 1: LT1587CM-3.45#PBF-ND; RoHS: TRUE; Mounting Technology: Surface Mount; ComponentLink1Description: Manufacturer URL; ComponentLink1URL: http://www.linear.com/; ComponentLink2Description: Datasheet; ComponentLink2URL: http://cds.linear.com/docs/en/datasheet/158457a.pdf; ComponentLink3Description: Package Specification; ComponentLink3URL: http://cds.linear.com/docs/en/packaging/05081460_F_M.pdf
footprint LT-M-3_N (DPAK, 3-Leads, Body 10.55x9.4mm, Pitch 2.54mm, IPC Medium Density)
footprint LT-M-3_L (DPAK, 3-Leads, Body 10.55x9.4mm, Pitch 2.54mm, IPC High Density)
footprint LT-M-3_M (DPAK, 3-Leads, Body 10.55x9.4mm, Pitch 2.54mm, IPC Low Density)
pins: 1 GND (power), 2 VOUT (power), 3 VIN (power), 4 OUT (power)

## LT1587CM-3.45#TR
designator U?
3 A Low Dropout Fast Response Positive Regulator, 2.7 to 7 V Vin, 3.45 V Vout, 3-pin DPAK (M-3), 0 to 150 degC, Tape and Reel; Manufacturer: Linear Technology; PartNumber: LT1587CM-3.45#TR; Discrete Pass Element: no; Dropout Voltage(V): 1.15; Iout(mA): 3000; Isupply(mA): 8; Number of Outputs: 1; Output Voltage: 3.45 V; PSRR(dB): 72; Vin Max(V): 7; Vin Min(V): 2.7; DatasheetVersion: Rev. A; PackageVersion: Rev. F, 05/2012; PackageReference: M-3; PackageDescription: 3-Pin Plastic DD Pak, Body 10.2235 x 8.89 mm, Pitch 2.54 mm; Supplier 1: Digi-Key; Supplier Part Number 1: LT1587CM-3.45#TR-ND; Packing: Tape and Reel; RoHS: FALSE; Mounting Technology: Surface Mount; ComponentLink1Description: Manufacturer URL; ComponentLink1URL: http://www.linear.com/; ComponentLink2Description: Datasheet; ComponentLink2URL: http://cds.linear.com/docs/en/datasheet/158457a.pdf; ComponentLink3Description: Package Specification; ComponentLink3URL: http://cds.linear.com/docs/en/packaging/05081460_F_M.pdf
footprint LT-M-3_N (DPAK, 3-Leads, Body 10.55x9.4mm, Pitch 2.54mm, IPC Medium Density)
footprint LT-M-3_L (DPAK, 3-Leads, Body 10.55x9.4mm, Pitch 2.54mm, IPC High Density)
footprint LT-M-3_M (DPAK, 3-Leads, Body 10.55x9.4mm, Pitch 2.54mm, IPC Low Density)
pins: 1 GND (power), 2 VOUT (power), 3 VIN (power), 4 OUT (power)

## LT1587CM-3.45#TRPBF
designator U?
3 A Low Dropout Fast Response Positive Regulator, 2.7 to 7 V Vin, 3.45 V Vout, 3-pin DPAK (M-3), 0 to 150 degC, Pb-Free, Tape and Reel; Manufacturer: Linear Technology; PartNumber: LT1587CM-3.45#TRPBF; Discrete Pass Element: no; Dropout Voltage(V): 1.15; Iout(mA): 3000; Isupply(mA): 8; Number of Outputs: 1; Output Voltage: 3.45 V; PSRR(dB): 72; Vin Max(V): 7; Vin Min(V): 2.7; DatasheetVersion: Rev. A; PackageVersion: Rev. F, 05/2012; PackageReference: M-3; PackageDescription: 3-Pin Plastic DD Pak, Body 10.2235 x 8.89 mm, Pitch 2.54 mm; Supplier 1: Digi-Key; Supplier Part Number 1: LT1587CM-3.45#TRPBF-ND; Packing: Tape and Reel; RoHS: TRUE; Mounting Technology: Surface Mount; ComponentLink1Description: Manufacturer URL; ComponentLink1URL: http://www.linear.com/; ComponentLink2Description: Datasheet; ComponentLink2URL: http://cds.linear.com/docs/en/datasheet/158457a.pdf; ComponentLink3Description: Package Specification; ComponentLink3URL: http://cds.linear.com/docs/en/packaging/05081460_F_M.pdf
footprint LT-M-3_N (DPAK, 3-Leads, Body 10.55x9.4mm, Pitch 2.54mm, IPC Medium Density)
footprint LT-M-3_L (DPAK, 3-Leads, Body 10.55x9.4mm, Pitch 2.54mm, IPC High Density)
footprint LT-M-3_M (DPAK, 3-Leads, Body 10.55x9.4mm, Pitch 2.54mm, IPC Low Density)
pins: 1 GND (power), 2 VOUT (power), 3 VIN (power), 4 OUT (power)

## LT1587CT
designator U?
3 A Low Dropout Fast Response Positive Regulator, 2.7 to 7 V Vin, Adjustable Vout, 3-pin FM (T-3), 0 to 150 degC; Manufacturer: Linear Technology; PartNumber: LT1587CT; Discrete Pass Element: no; Dropout Voltage(V): 1.15; Iout(mA): 3000; Isupply(mA): 8; Number of Outputs: 1; Output Voltage: Adj; PSRR(dB): 72; Vin Max(V): 7; Vin Min(V): 2.7; Vout Max(V): 5.5; Vout Min(V): 1.5; DatasheetVersion: Rev. A; PackageVersion: Jun-10; PackageReference: T-3; PackageDescription: 3-Pin Plastic TO-220, Body 10.2235 x 4.3815 mm, Pitch 2.54 mm; Supplier 1: Digi-Key; Supplier Part Number 1: LT1587CT-ND; RoHS: FALSE; Mounting Technology: Through Hole; ComponentLink1Description: Manufacturer URL; ComponentLink1URL: http://www.linear.com/; ComponentLink2Description: Datasheet; ComponentLink2URL: http://cds.linear.com/docs/en/datasheet/158457a.pdf; ComponentLink3Description: Package Specification; ComponentLink3URL: http://cds.linear.com/docs/en/packaging/TO-220_3_05-08-1420.pdf
footprint LT-T-3 (T, 3-Leads, Body 10.55x4.6mm, Pitch 2.54mm)
pins: 1 ADJ (in), 2 VOUT (power), 3 VIN (power)

## LT1587CT#PBF
designator U?
3 A Low Dropout Fast Response Positive Regulator, 2.7 to 7 V Vin, Adjustable Vout, 3-pin FM (T-3), 0 to 150 degC, Pb-Free; Manufacturer: Linear Technology; PartNumber: LT1587CT#PBF; Discrete Pass Element: no; Dropout Voltage(V): 1.15; Iout(mA): 3000; Isupply(mA): 8; Number of Outputs: 1; Output Voltage: Adj; PSRR(dB): 72; Vin Max(V): 7; Vin Min(V): 2.7; Vout Max(V): 5.5; Vout Min(V): 1.5; DatasheetVersion: Rev. A; PackageVersion: Jun-10; PackageReference: T-3; PackageDescription: 3-Pin Plastic TO-220, Body 10.2235 x 4.3815 mm, Pitch 2.54 mm; Supplier 1: Digi-Key; Supplier Part Number 1: LT1587CT#PBF-ND; Supplier 2: Farnell; Supplier Part Number 2: 9560645; Supplier 3: Newark; Supplier Part Number 3: 57M5170; RoHS: TRUE; Mounting Technology: Through Hole; ComponentLink1Description: Manufacturer URL; ComponentLink1URL: http://www.linear.com/; ComponentLink2Description: Datasheet; ComponentLink2URL: http://cds.linear.com/docs/en/datasheet/158457a.pdf; ComponentLink3Description: Package Specification; ComponentLink3URL: http://cds.linear.com/docs/en/packaging/TO-220_3_05-08-1420.pdf
footprint LT-T-3 (T, 3-Leads, Body 10.55x4.6mm, Pitch 2.54mm)
pins: 1 ADJ (in), 2 VOUT (power), 3 VIN (power)

## LT1587CT-1.5
designator U?
3 A Low Dropout Fast Response Positive Regulator, 2.7 to 7 V Vin, 1.5 V Vout, 3-pin FM (T-3), 0 to 150 degC; Manufacturer: Linear Technology; PartNumber: LT1587CT-1.5; Discrete Pass Element: no; Dropout Voltage(V): 1.15; Iout(mA): 3000; Isupply(mA): 8; Number of Outputs: 1; Output Voltage: 1.5 V; PSRR(dB): 72; Vin Max(V): 7; Vin Min(V): 2.7; DatasheetVersion: Rev. A; PackageVersion: Jun-10; PackageReference: T-3; PackageDescription: 3-Pin Plastic TO-220, Body 10.2235 x 4.3815 mm, Pitch 2.54 mm; Supplier 1: Digi-Key; Supplier Part Number 1: LT1587CT-1.5-ND; RoHS: FALSE; Mounting Technology: Through Hole; ComponentLink1Description: Manufacturer URL; ComponentLink1URL: http://www.linear.com/; ComponentLink2Description: Datasheet; ComponentLink2URL: http://cds.linear.com/docs/en/datasheet/158457a.pdf; ComponentLink3Description: Package Specification; ComponentLink3URL: http://cds.linear.com/docs/en/packaging/TO-220_3_05-08-1420.pdf
footprint LT-T-3 (T, 3-Leads, Body 10.55x4.6mm, Pitch 2.54mm)
pins: 1 GND (power), 2 VOUT (power), 3 VIN (power)

## LT1587CT-1.5#PBF
designator U?
3 A Low Dropout Fast Response Positive Regulator, 2.7 to 7 V Vin, 1.5 V Vout, 3-pin FM (T-3), 0 to 150 degC, Pb-Free; Manufacturer: Linear Technology; PartNumber: LT1587CT-1.5#PBF; Discrete Pass Element: no; Dropout Voltage(V): 1.15; Iout(mA): 3000; Isupply(mA): 8; Number of Outputs: 1; Output Voltage: 1.5 V; PSRR(dB): 72; Vin Max(V): 7; Vin Min(V): 2.7; DatasheetVersion: Rev. A; PackageVersion: Jun-10; PackageReference: T-3; PackageDescription: 3-Pin Plastic TO-220, Body 10.2235 x 4.3815 mm, Pitch 2.54 mm; Supplier 1: Digi-Key; Supplier Part Number 1: LT1587CT-1.5#PBF-ND; RoHS: TRUE; Mounting Technology: Through Hole; ComponentLink1Description: Manufacturer URL; ComponentLink1URL: http://www.linear.com/; ComponentLink2Description: Datasheet; ComponentLink2URL: http://cds.linear.com/docs/en/datasheet/158457a.pdf; ComponentLink3Description: Package Specification; ComponentLink3URL: http://cds.linear.com/docs/en/packaging/TO-220_3_05-08-1420.pdf
footprint LT-T-3 (T, 3-Leads, Body 10.55x4.6mm, Pitch 2.54mm)
pins: 1 GND (power), 2 VOUT (power), 3 VIN (power)

## LT1587CT-3.3
designator U?
3 A Low Dropout Fast Response Positive Regulator, 2.7 to 7 V Vin, 3.3 V Vout, 3-pin FM (T-3), 0 to 150 degC; Manufacturer: Linear Technology; PartNumber: LT1587CT-3.3; Discrete Pass Element: no; Dropout Voltage(V): 1.15; Iout(mA): 3000; Isupply(mA): 8; Number of Outputs: 1; Output Voltage: 3.3 V; PSRR(dB): 72; Vin Max(V): 7; Vin Min(V): 2.7; DatasheetVersion: Rev. A; PackageVersion: Jun-10; PackageReference: T-3; PackageDescription: 3-Pin Plastic TO-220, Body 10.2235 x 4.3815 mm, Pitch 2.54 mm; Supplier 1: Digi-Key; Supplier Part Number 1: LT1587CT-3.3-ND; RoHS: FALSE; Mounting Technology: Through Hole; ComponentLink1Description: Manufacturer URL; ComponentLink1URL: http://www.linear.com/; ComponentLink2Description: Datasheet; ComponentLink2URL: http://cds.linear.com/docs/en/datasheet/158457a.pdf; ComponentLink3Description: Package Specification; ComponentLink3URL: http://cds.linear.com/docs/en/packaging/TO-220_3_05-08-1420.pdf
footprint LT-T-3 (T, 3-Leads, Body 10.55x4.6mm, Pitch 2.54mm)
pins: 1 GND (power), 2 VOUT (power), 3 VIN (power)

## LT1587CT-3.3#PBF
designator U?
3 A Low Dropout Fast Response Positive Regulator, 2.7 to 7 V Vin, 3.3 V Vout, 3-pin FM (T-3), 0 to 150 degC, Pb-Free; Manufacturer: Linear Technology; PartNumber: LT1587CT-3.3#PBF; Discrete Pass Element: no; Dropout Voltage(V): 1.15; Iout(mA): 3000; Isupply(mA): 8; Number of Outputs: 1; Output Voltage: 3.3 V; PSRR(dB): 72; Vin Max(V): 7; Vin Min(V): 2.7; DatasheetVersion: Rev. A; PackageVersion: Jun-10; PackageReference: T-3; PackageDescription: 3-Pin Plastic TO-220, Body 10.2235 x 4.3815 mm, Pitch 2.54 mm; Supplier 1: Digi-Key; Supplier Part Number 1: LT1587CT-3.3#PBF-ND; Supplier 2: Farnell; Supplier Part Number 2: 9560653; Supplier 3: Newark; Supplier Part Number 3: 57M5165; RoHS: TRUE; Mounting Technology: Through Hole; ComponentLink1Description: Manufacturer URL; ComponentLink1URL: http://www.linear.com/; ComponentLink2Description: Datasheet; ComponentLink2URL: http://cds.linear.com/docs/en/datasheet/158457a.pdf; ComponentLink3Description: Package Specification; ComponentLink3URL: http://cds.linear.com/docs/en/packaging/TO-220_3_05-08-1420.pdf
footprint LT-T-3 (T, 3-Leads, Body 10.55x4.6mm, Pitch 2.54mm)
pins: 1 GND (power), 2 VOUT (power), 3 VIN (power)

## LT1587CT-3.6
designator U?
3 A Low Dropout Fast Response Positive Regulator, 2.7 to 7 V Vin, 3.6 V Vout, 3-pin FM (T-3), 0 to 150 degC; Manufacturer: Linear Technology; PartNumber: LT1587CT-3.6; Discrete Pass Element: no; Dropout Voltage(V): 1.15; Iout(mA): 3000; Isupply(mA): 8; Number of Outputs: 1; Output Voltage: 3.6 V; PSRR(dB): 72; Vin Max(V): 7; Vin Min(V): 2.7; DatasheetVersion: Rev. A; PackageVersion: Jun-10; PackageReference: T-3; PackageDescription: 3-Pin Plastic TO-220, Body 10.2235 x 4.3815 mm, Pitch 2.54 mm; Supplier 1: Digi-Key; Supplier Part Number 1: LT1587CT-3.6-ND; RoHS: FALSE; Mounting Technology: Through Hole; ComponentLink1Description: Manufacturer URL; ComponentLink1URL: http://www.linear.com/; ComponentLink2Description: Datasheet; ComponentLink2URL: http://cds.linear.com/docs/en/datasheet/158457a.pdf; ComponentLink3Description: Package Specification; ComponentLink3URL: http://cds.linear.com/docs/en/packaging/TO-220_3_05-08-1420.pdf
footprint LT-T-3 (T, 3-Leads, Body 10.55x4.6mm, Pitch 2.54mm)
pins: 1 GND (power), 2 VOUT (power), 3 VIN (power)

## LT1587CT-3.6#PBF
designator U?
3 A Low Dropout Fast Response Positive Regulator, 2.7 to 7 V Vin, 3.6 V Vout, 3-pin FM (T-3), 0 to 150 degC, Pb-Free; Manufacturer: Linear Technology; PartNumber: LT1587CT-3.6#PBF; Discrete Pass Element: no; Dropout Voltage(V): 1.15; Iout(mA): 3000; Isupply(mA): 8; Number of Outputs: 1; Output Voltage: 3.6 V; PSRR(dB): 72; Vin Max(V): 7; Vin Min(V): 2.7; DatasheetVersion: Rev. A; PackageVersion: Jun-10; PackageReference: T-3; PackageDescription: 3-Pin Plastic TO-220, Body 10.2235 x 4.3815 mm, Pitch 2.54 mm; Supplier 1: Digi-Key; Supplier Part Number 1: LT1587CT-3.6#PBF-ND; RoHS: TRUE; Mounting Technology: Through Hole; ComponentLink1Description: Manufacturer URL; ComponentLink1URL: http://www.linear.com/; ComponentLink2Description: Datasheet; ComponentLink2URL: http://cds.linear.com/docs/en/datasheet/158457a.pdf; ComponentLink3Description: Package Specification; ComponentLink3URL: http://cds.linear.com/docs/en/packaging/TO-220_3_05-08-1420.pdf
footprint LT-T-3 (T, 3-Leads, Body 10.55x4.6mm, Pitch 2.54mm)
pins: 1 GND (power), 2 VOUT (power), 3 VIN (power)

## LT1587CT-3.45
designator U?
3 A Low Dropout Fast Response Positive Regulator, 2.7 to 7 V Vin, 3.45 V Vout, 3-pin FM (T-3), 0 to 150 degC; Manufacturer: Linear Technology; PartNumber: LT1587CT-3.45; Discrete Pass Element: no; Dropout Voltage(V): 1.15; Iout(mA): 3000; Isupply(mA): 8; Number of Outputs: 1; Output Voltage: 3.45 V; PSRR(dB): 72; Vin Max(V): 7; Vin Min(V): 2.7; DatasheetVersion: Rev. A; PackageVersion: Jun-10; PackageReference: T-3; PackageDescription: 3-Pin Plastic TO-220, Body 10.2235 x 4.3815 mm, Pitch 2.54 mm; Supplier 1: Digi-Key; Supplier Part Number 1: LT1587CT-3.45-ND; RoHS: FALSE; Mounting Technology: Through Hole; ComponentLink1Description: Manufacturer URL; ComponentLink1URL: http://www.linear.com/; ComponentLink2Description: Datasheet; ComponentLink2URL: http://cds.linear.com/docs/en/datasheet/158457a.pdf; ComponentLink3Description: Package Specification; ComponentLink3URL: http://cds.linear.com/docs/en/packaging/TO-220_3_05-08-1420.pdf
footprint LT-T-3 (T, 3-Leads, Body 10.55x4.6mm, Pitch 2.54mm)
pins: 1 GND (power), 2 VOUT (power), 3 VIN (power)

## LT1587CT-3.45#PBF
designator U?
3 A Low Dropout Fast Response Positive Regulator, 2.7 to 7 V Vin, 3.45 V Vout, 3-pin FM (T-3), 0 to 150 degC, Pb-Free; Manufacturer: Linear Technology; PartNumber: LT1587CT-3.45#PBF; Discrete Pass Element: no; Dropout Voltage(V): 1.15; Iout(mA): 3000; Isupply(mA): 8; Number of Outputs: 1; Output Voltage: 3.45 V; PSRR(dB): 72; Vin Max(V): 7; Vin Min(V): 2.7; DatasheetVersion: Rev. A; PackageVersion: Jun-10; PackageReference: T-3; PackageDescription: 3-Pin Plastic TO-220, Body 10.2235 x 4.3815 mm, Pitch 2.54 mm; Supplier 1: Digi-Key; Supplier Part Number 1: LT1587CT-3.45#PBF-ND; RoHS: TRUE; Mounting Technology: Through Hole; ComponentLink1Description: Manufacturer URL; ComponentLink1URL: http://www.linear.com/; ComponentLink2Description: Datasheet; ComponentLink2URL: http://cds.linear.com/docs/en/datasheet/158457a.pdf; ComponentLink3Description: Package Specification; ComponentLink3URL: http://cds.linear.com/docs/en/packaging/TO-220_3_05-08-1420.pdf
footprint LT-T-3 (T, 3-Leads, Body 10.55x4.6mm, Pitch 2.54mm)
pins: 1 GND (power), 2 VOUT (power), 3 VIN (power)